# EAGLE library part EA_SEREXP (library asrp)
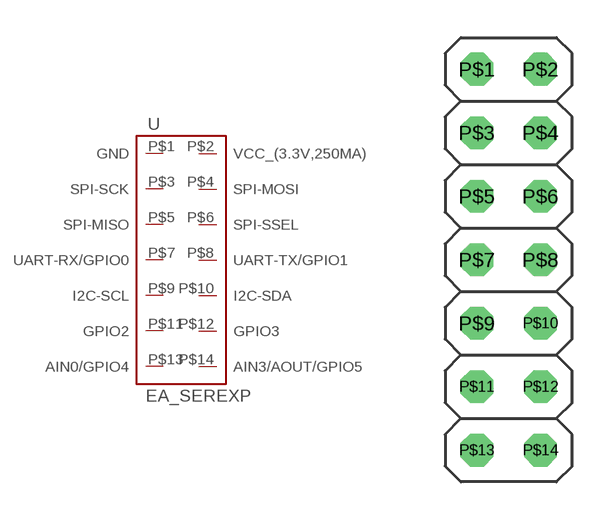
[diagram p1: symbol with the pads of 2X7; footprint 2X7]

Designator prefix -

## EA_SEREXPTHROUGHOLE  [2X7]
P$1  GND
P$2  VCC_(3.3V,250MA)
P$3  SPI-SCK
P$4  SPI-MOSI
P$5  SPI-MISO
P$6  SPI-SSEL
P$7  UART-RX/GPIO0
P$8  UART-TX/GPIO1
P$9  I2C-SCL
P$10  I2C-SDA
P$11  GPIO2
P$12  GPIO3
P$13  AIN0/GPIO4
P$14  AIN3/AOUT/GPIO5

## Footprint 2X7 (pad centres in mm)
drill 0.8 octagon: P$1 -1.27,7.62; P$2 1.27,7.62; P$3 -1.27,5.08; P$4 1.27,5.08; P$5 -1.27,2.54; P$6 1.27,2.54; P$7 -1.27,0; P$8 1.27,0; P$9 -1.27,-2.54; P$10 1.27,-2.54; P$11 -1.27,-5.08; P$12 1.27,-5.08; P$13 -1.27,-7.62; P$14 1.27,-7.62